# Altium footprint library BAT54C.PcbLib: 1 footprints
Each footprint in its own frame and in the unit in brackets; x right, y up, seen from the top. Pads: shape width x height; smd on the part's side, far side on the other; paste and mask are expansions set on the pad; w line width, h text height; cw(c..) or ccw(c..) is an arc to the next point about the centre after c.
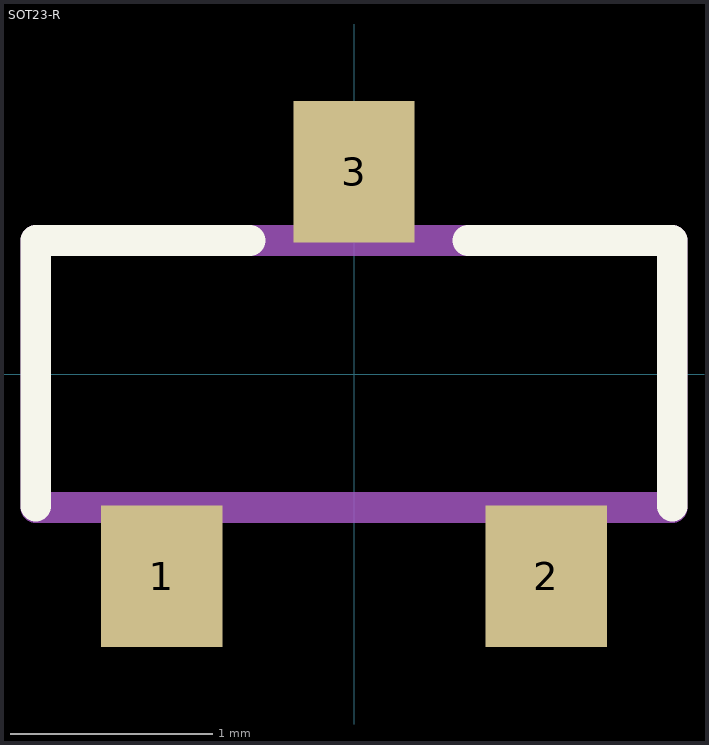
[diagram p0: the footprint, top view; thin cyan lines are the x and y axes]

## SOT23-R [mm]
pads (3):
  rect 0.6x0.7 smd: 1(-0.95,-1) 2(0.95,-1) 3(0,1)
Top Overlay:
  lines w0.152: -1.572,-0.652 -1.572,0.66 -0.514,0.66 ; 0.564,0.66 1.572,0.66 1.572,-0.652
Assembly Top:
  region: -0.711,-1.297 -1.17,-1.297 -1.17,-0.711 -0.711,-0.711
  region: 1.168,-1.296 0.711,-1.296 0.711,-0.711 1.168,-0.711
  region: 0.229,0.711 -0.229,0.711 -0.229,1.295 0.229,1.295
  lines w0.152: -1.572,-0.66 -1.572,0.66 1.572,0.66 1.572,-0.66 -1.572,-0.66
3D body "step_temp.STEP": height 1.3, standoff 0, extent -1.515,-1.3 1.525,1.3